# Altium footprint library EISI.PcbLib: 695 footprints (part 30 of 44)
Each footprint in its own frame and in the unit in brackets; x right, y up, seen from the top. Pads: shape width x height; smd on the part's side, far side on the other; paste and mask are expansions set on the pad; w line width, h text height; cw(c..) or ccw(c..) is an arc to the next point about the centre after c.
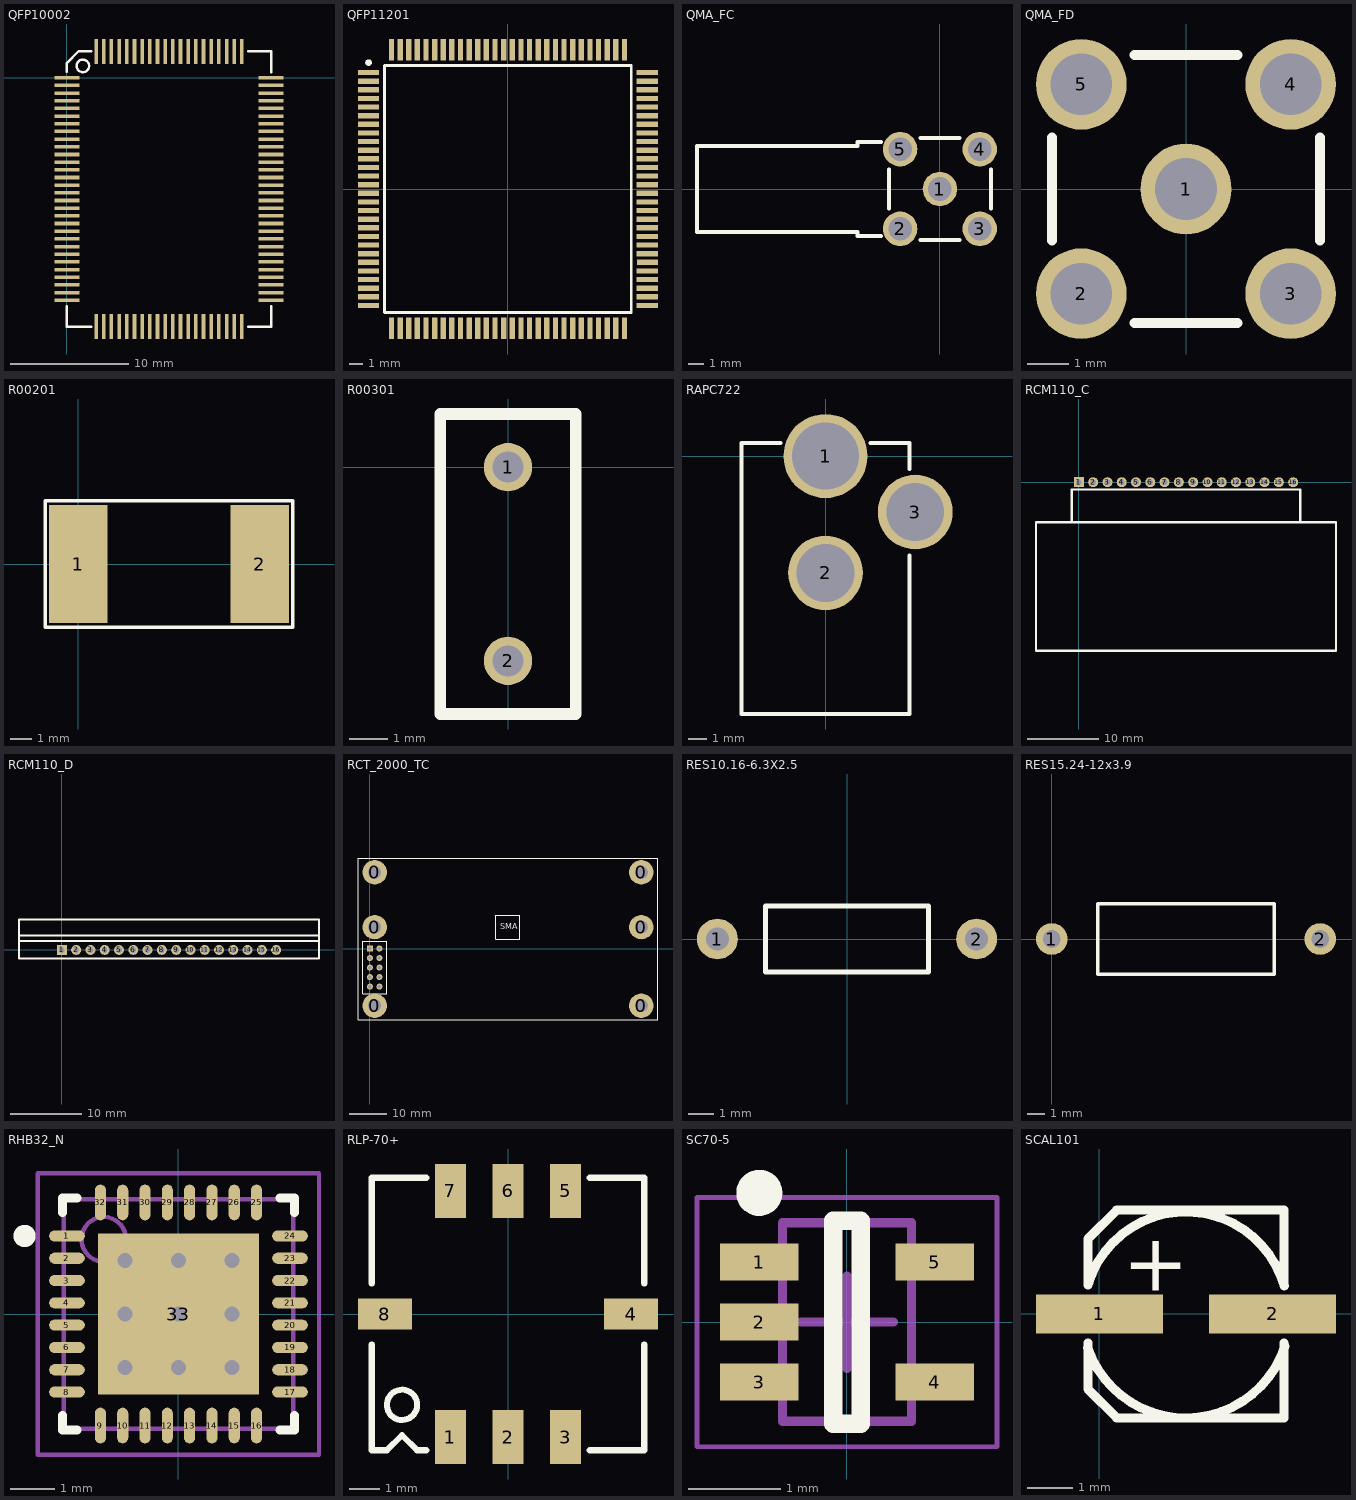
[diagram p29: the footprints below, top view; thin cyan lines are the x and y axes]

## QFP10002 [mil]
pads (100):
  rect 83x12 smd: 1(0,0) 2(0,-25.59) 3(0,-51.18) 4(0,-76.77) 5(0,-102.36) 6(0,-127.95) 7(0,-153.54) 8(0,-179.13) 9(0,-204.72) 10(0,-230.31) 11(0,-255.91) 12(0,-281.5) 13(0,-307.09) 14(0,-332.68) 15(0,-358.27) 16(0,-383.86) 17(0,-409.45) 18(0,-435.04) 19(0,-460.63) 20(0,-486.22) 21(0,-511.81) 22(0,-537.4) 23(0,-562.99) 24(0,-588.58) 25(0,-614.17) 26(0,-639.76) 27(0,-665.35) 28(0,-690.94) 29(0,-716.54) 30(0,-742.13) 51(681.1,-742.13) 52(681.1,-716.54) 53(681.1,-690.94) 54(681.1,-665.35) 55(681.1,-639.76) 56(681.1,-614.17) 57(681.1,-588.58) 58(681.1,-562.99) 59(681.1,-537.4) 60(681.1,-511.81) 61(681.1,-486.22) 62(681.1,-460.63) 63(681.1,-435.04) 64(681.1,-409.45) 65(681.1,-383.86) 66(681.1,-358.27) 67(681.1,-332.68) 68(681.1,-307.09) 69(681.1,-281.5) 70(681.1,-255.91) 71(681.1,-230.31) 72(681.1,-204.72) 73(681.1,-179.13) 74(681.1,-153.54) 75(681.1,-127.95) 76(681.1,-102.36) 77(681.1,-76.77) 78(681.1,-51.18) 79(681.1,-25.59) 80(681.1,0)
  rect 12x83 smd: 31(97.44,-829.72) 32(123.03,-829.72) 33(148.62,-829.72) 34(174.21,-829.72) 35(199.8,-829.72) 36(225.39,-829.72) 37(250.98,-829.72) 38(276.57,-829.72) 39(302.17,-829.72) 40(327.76,-829.72) 41(353.35,-829.72) 42(378.94,-829.72) 43(404.53,-829.72) 44(430.12,-829.72) 45(455.71,-829.72) 46(481.3,-829.72) 47(506.89,-829.72) 48(532.48,-829.72) 49(558.07,-829.72) 50(583.66,-829.72) 81(583.66,87.6) 82(558.07,87.6) 83(532.48,87.6) 84(506.89,87.6) 85(481.3,87.6) 86(455.71,87.6) 87(430.12,87.6) 88(404.53,87.6) 89(378.94,87.6) 90(353.35,87.6) 91(327.76,87.6) 92(302.17,87.6) 93(276.57,87.6) 94(250.98,87.6) 95(225.39,87.6) 96(199.8,87.6) 97(174.21,87.6) 98(148.62,87.6) 99(123.03,87.6) 100(97.44,87.6)
TopOverlay:
  circle w8: c53.15,39.37 r20.93
  lines w7.87: 0,-762 0,-830.71 80.71,-830.71 ; 0,19.68 0,49.21 39.37,88.58 80.71,88.58 ; 604.33,-830.71 681.1,-830.71 681.1,-761.81 ; 604.33,88.58 681.1,88.58 681.1,17.72

## QFP11201 [mm] "QFP; 112 Leads; Body 20 x 20 mm; Pitch 0.65 mm"
height 1.6
pads (112):
  rect 1.6x0.4 smd: 1(-10.5,8.775) 2(-10.5,8.125) 3(-10.5,7.475) 4(-10.5,6.825) 5(-10.5,6.175) 6(-10.5,5.525) 7(-10.5,4.875) 8(-10.5,4.225) 9(-10.5,3.575) 10(-10.5,2.925) 11(-10.5,2.275) 12(-10.5,1.625) 13(-10.5,0.975) 14(-10.5,0.325) 15(-10.5,-0.325) 16(-10.5,-0.975) 17(-10.5,-1.625) 18(-10.5,-2.275) 19(-10.5,-2.925) 20(-10.5,-3.575) 21(-10.5,-4.225) 22(-10.5,-4.875) 23(-10.5,-5.525) 24(-10.5,-6.175) 25(-10.5,-6.825) 26(-10.5,-7.475) 27(-10.5,-8.125) 28(-10.5,-8.775) 57(10.5,-8.775) 58(10.5,-8.125) 59(10.5,-7.475) 60(10.5,-6.825) 61(10.5,-6.175) 62(10.505,-5.525) 63(10.5,-4.875) 64(10.5,-4.225) 65(10.5,-3.575) 66(10.5,-2.925) 67(10.5,-2.275) 68(10.5,-1.625) 69(10.5,-0.975) 70(10.5,-0.325) 71(10.5,0.325) 72(10.5,0.975) 73(10.5,1.625) 74(10.5,2.275) 75(10.5,2.925) 76(10.5,3.575) 77(10.5,4.225) 78(10.5,4.875) 79(10.5,5.525) 80(10.5,6.175) 81(10.5,6.825) 82(10.5,7.475) 83(10.5,8.125) 84(10.5,8.775)
  rect 0.4x1.6 smd: 29(-8.775,-10.5) 30(-8.125,-10.5) 31(-7.475,-10.5) 32(-6.825,-10.5) 33(-6.175,-10.5) 34(-5.525,-10.5) 35(-4.875,-10.5) 36(-4.225,-10.5) 37(-3.575,-10.5) 38(-2.925,-10.5) 39(-2.275,-10.5) 40(-1.625,-10.5) 41(-0.975,-10.5) 42(-0.325,-10.5) 43(0.325,-10.5) 44(0.975,-10.5) 45(1.625,-10.5) 46(2.275,-10.5) 47(2.925,-10.5) 48(3.575,-10.5) 49(4.225,-10.5) 50(4.875,-10.5) 51(5.525,-10.5) 52(6.175,-10.5) 53(6.825,-10.5) 54(7.475,-10.5) 55(8.125,-10.5) 56(8.775,-10.5) 85(8.775,10.5) 86(8.125,10.5) 87(7.475,10.5) 88(6.825,10.5) 89(6.175,10.5) 90(5.525,10.5) 91(4.875,10.5) 92(4.225,10.5) 93(3.575,10.5) 94(2.925,10.5) 95(2.275,10.5) 96(1.625,10.5) 97(0.975,10.5) 98(0.325,10.5) 99(-0.325,10.5) 100(-0.975,10.5) 101(-1.625,10.5) 102(-2.275,10.5) 103(-2.925,10.5) 104(-3.575,10.5) 105(-4.225,10.5) 106(-4.875,10.5) 107(-5.525,10.5) 108(-6.175,10.5) 109(-6.825,10.5) 110(-7.475,10.5) 111(-8.125,10.5) 112(-8.775,10.5)
TopOverlay:
  circle w0.25: c-10.505,9.525 r0.125
  lines w0.2: -9.3,-9.3 9.3,-9.3 9.3,9.3 -9.3,9.3 -9.3,-9.3

## QMA_FC [mm] "Con QMA femelle print coudé"
height 9.7
pads (5):
  round 2.2 hole 1.5: 1(0,0) 2(-2.54,-2.54) 3(2.54,-2.54) 4(2.54,2.54) 5(-2.54,2.54)
TopOverlay:
  lines w0.25: -3.75,-3 -5.25,-3 -5.25,-2.75 -15.5,-2.75 -15.5,2.75 -5.25,2.75 -5.25,3 -3.75,3 ; -3.25,-1.25 -3.25,1.25 ; -1.25,-3.25 1.25,-3.25 ; -1.25,3.25 1.25,3.25 ; 3.25,-1.25 3.25,1.25

## QMA_FD [mm] "Con QMA femelle print coudé"
height 11
pads (5):
  round 2.2 hole 1.5: 1(0,0) 2(-2.54,-2.54) 3(2.54,-2.54) 4(2.54,2.54) 5(-2.54,2.54)
TopOverlay:
  lines w0.25: -3.25,-1.25 -3.25,1.25 ; -1.25,-3.25 1.25,-3.25 ; -1.25,3.25 1.25,3.25 ; 3.25,-1.25 3.25,1.25

## R00201 [mil]
pads (2):
  rect 106x215 smd: 1(0,0) 2(330,0)
TopOverlay:
  lines w6: -60,-115 390,-115 390,115 -60,115 -60,-115

## R00301 [mil]
pads (2):
  round 50 hole 32: 1(0,0) 2(0,-200)
TopOverlay:
  lines w12: -70,-255 70,-255 70,55 -70,55 -70,-255

## RAPC722 [mm] "Power Jack Switchcraft"
height 11
pads (3):
  round 4.5 hole 3.6: 1(0,0)
  round 4 hole 3.1: 2(0,-6.25) 3(4.8,-3)
TopOverlay:
  lines w0.2: -2.4,0.7 -4.5,0.7 -4.5,-13.8 4.5,-13.8 4.5,-5.3 ; 2.4,0.7 4.5,0.7 4.5,-0.7

## RCM110_C [mm] "RF Receiver Module (Couché)"
height 5.5
pads (16):
  rect 1.4x1.4 hole 0.8: 1(0,0)
  round 1.4 hole 0.8: 2(2,0) 3(4,0) 4(6,0) 5(8,0) 6(10,0) 7(12,0) 8(14,0) 9(16,0) 10(18,0) 11(20,0) 12(22,0) 13(24,0) 14(26,0) 15(28,0) 16(30,0)
TopOverlay:
  lines w0.3: -1,-5.6 -1,-1 31,-1 31,-5.6 ; -6,-23.6 -6,-5.6 36,-5.6 36,-23.6 -6,-23.6

## RCM110_D [mm] "RF Receiver Module (Debout)"
height 22
pads (16):
  rect 1.4x1.4 hole 0.8: 1(0,0)
  round 1.4 hole 0.8: 2(2,0) 3(4,0) 4(6,0) 5(8,0) 6(10,0) 7(12,0) 8(14,0) 9(16,0) 10(18,0) 11(20,0) 12(22,0) 13(24,0) 14(26,0) 15(28,0) 16(30,0)
TopOverlay:
  lines w0.3: -6,1 -6,2 36,2 36,1 ; -6,1.225 -1,1.225 36,1.225 ; -6,-1.225 -6,4.275 36,4.275 36,-1.225 -6,-1.225

## RCT_2000_TC [mm] "Tranceiver ATC"
pads (16):
  round 6.5 hole 3.5: 0(1.27,-15.24) 0(1.27,5.715) 0(1.27,20.32) 0(72.39,-15.24) 0(72.39,5.715) 0(72.39,20.32)
  rect 1.6x1.6 hole 0.9: 1(0,0)
  round 1.6 hole 0.9: 2(2.54,0) 3(0,-2.54) 4(2.54,-2.54) 5(0,-5.08) 6(2.54,-5.08) 7(0,-7.62) 8(2.54,-7.62) 9(0,-10.16) 10(2.54,-10.16)
TopOverlay:
  lines w0.2: -1.905,-12.065 4.445,-12.065 4.445,1.905 -1.905,1.905 -1.905,-12.065 ; 33.6,2.5 40,2.5 40,8.9 33.6,8.9 33.6,2.5
  lines w0.254: -3.175,-19.05 76.835,-19.05 76.835,24.13 -3.175,24.13 -3.175,-19.05
  text "SMA" at 34.7,5.1 h1.52

## RES10.16-6.3X2.5 [mm] "Resistor, Axial; Body 6.3 x 2.5 mm (LxDia. max), Lead Dia. 0.6 mm (max)"
height 2.5
pads (2):
  round 1.6 hole 0.9: 1(-5.08,0) 2(5.08,0)
TopOverlay:
  lines w0.2: -3.2,-1.3 3.2,-1.3 3.2,1.3 -3.2,1.3 -3.2,-1.3

## RES15.24-12x3.9 [mm] "Res PR02"
pads (2):
  round 1.8 hole 1: 1(0,0) 2(15.24,0)
TopOverlay:
  lines w0.2: 2.62,-2 12.62,-2 12.62,2 2.62,2 2.62,-2

## RHB32_N [mm] "32-Pin Plastic Quad Flat No-Lead 0.5 mm Pitch, IPC Medium Density"
height 1
pads (33):
  oval 0.8x0.25 smd: 1(-2.5,1.75) 2(-2.5,1.25) 3(-2.5,0.75) 4(-2.5,0.25) 5(-2.5,-0.25) 6(-2.5,-0.75) 7(-2.5,-1.25) 8(-2.5,-1.75) 17(2.5,-1.75) 18(2.5,-1.25) 19(2.5,-0.75) 20(2.5,-0.25) 21(2.5,0.25) 22(2.5,0.75) 23(2.5,1.25) 24(2.5,1.75)
  oval 0.25x0.8 smd: 9(-1.75,-2.5) 10(-1.25,-2.5) 11(-0.75,-2.5) 12(-0.25,-2.5) 13(0.25,-2.5) 14(0.75,-2.5) 15(1.25,-2.5) 16(1.75,-2.5) 25(1.75,2.5) 26(1.25,2.5) 27(0.75,2.5) 28(0.25,2.5) 29(-0.25,2.5) 30(-0.75,2.5) 31(-1.25,2.5) 32(-1.75,2.5)
  rect 3.6x3.6 smd: 33(0,0)
via -1.2,1.2 diameter 0.66 hole 0.33
via 0,1.2 diameter 0.66 hole 0.33
via 1.2,1.2 diameter 0.66 hole 0.33
via -1.2,0 diameter 0.66 hole 0.33
via 0,0 diameter 0.66 hole 0.33
via 1.2,0 diameter 0.66 hole 0.33
via -1.2,-1.2 diameter 0.66 hole 0.33
via 0,-1.2 diameter 0.66 hole 0.33
via 1.2,-1.2 diameter 0.66 hole 0.33
TopOverlay:
  circle w0.25: c-3.45,1.75 r0.125
  lines w0.2: -2.6,-2.275 -2.6,-2.6 -2.275,-2.6 ; -2.6,2.275 -2.6,2.6 -2.275,2.6 ; 2.275,-2.6 2.6,-2.6 2.6,-2.275 ; 2.275,2.6 2.6,2.6 2.6,2.275
Mechanical13:
  circle w0.1: c-1.675,1.675 r0.5
  lines w0.1: -2.575,-2.575 -2.575,2.575 2.575,2.575 2.575,-2.575 -2.575,-2.575
Mechanical15:
  lines w0.1: -0.5,0 0.5,0 ; 0,-0.5 0,0.5 ; -3.15,-3.15 -3.15,3.15 3.15,3.15 3.15,-3.15 -3.15,-3.15
3D body: height 1, standoff 0, extent -2.575,-2.575 2.575,2.575

## RLP-70+ [mm]
height 2.54
pads (8):
  rect 1.02x1.78 smd: 1(-1.905,-4.064) 2(0,-4.064) 3(1.905,-4.064) 5(1.905,4.064) 6(0,4.064) 7(-1.905,4.064)
  rect 1.78x1.02 smd: 4(4.064,0) 8(-4.064,0)
TopOverlay:
  circle w0.2: c-3.5,-3 r0.5
  lines w0.2: -4.5,-1 -4.5,-4.5 -4,-4.5 -3.5,-4 ; -4.5,1 -4.5,4.5 -2.7,4.5 ; -2.7,-4.5 -3,-4.5 -3.5,-4 ; 2.7,-4.5 4.5,-4.5 4.5,-1 ; 2.7,4.5 4.5,4.5 4.5,1 ; -3.5,-4 -3.5,-4

## SC70-5 [mm] "SOT353, 5-Leads, Body 2x1.3mm, Pitch 0.65mm, Lead Span 2.1mm, IPC Medium Density"
height 1.1
pads (5):
  rect 0.85x0.4 smd: 1(-0.95,0.65) 2(-0.95,0) 3(-0.95,-0.65) 4(0.95,-0.65) 5(0.95,0.65)
TopOverlay:
  circle w0.25: c-0.95,1.4 r0.125
  lines w0.2: -0.15,-1.1 0.15,-1.1 0.15,1.1 -0.15,1.1 -0.15,-1.1
Mechanical13:
  lines w0.1: -0.7,-1.075 -0.7,1.075 0.7,1.075 0.7,-1.075 -0.7,-1.075
Mechanical15:
  lines w0.05: -1.625,-1.35 -1.625,1.35 1.625,1.35 1.625,-1.35 -1.625,-1.35
  lines w0.1: -0.5,0 0.5,0 ; 0,-0.5 0,0.5
3D body: height 1.1, standoff 0, extent -0.7,-1.075 0.7,1.075

## SCAL101 [mil]
pads (2):
  rect 110x34 smd: 1(0,0) 2(150,0)
TopOverlay:
  lines w7.87: -10,-25 -10,-65 15,-90 160,-90 160,-25 ; -10,25 -10,65 15,90 160,90 160,25
  lines w8: -10.23,-29.35 ccw(c75,0) 160.73,-27.85 ; -9.26,27.38 cw(c75,0) 160.17,24.42
  text "+" at 20,20 h50